# EAGLE library part TPS5430 (library dc-dc)
3-A, WIDE INPUT RANGE, STEP-DOWN SWIFT™ CONVERTER
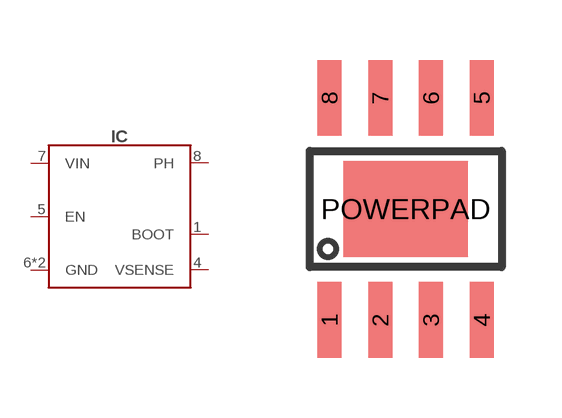
[diagram p16: symbol with the pads of SOIC8-POWERPAD; footprint SOIC8-POWERPAD]

Designator prefix IC

## TPS5430 (MANF: Texas Instruments; MANF#: TPS5430DDA)  [SOIC8-POWERPAD]
1  BOOT
4  VSENSE
5  EN
6  GND
7  VIN
8  PH
POWERPAD  GND

## Footprint SOIC8-POWERPAD (pad centres in mm)
https://datasheet.lcsc.com/szlcsc/1811060506_Texas-Instruments-LM5017MRX-NOPB_C34355.pdf
smd 0.6 x 1.9: 1 -1.905,-2.78; 2 -0.635,-2.78; 3 0.635,-2.78; 4 1.905,-2.78; 5 1.905,2.78; 6 0.635,2.78; 7 -0.635,2.78; 8 -1.905,2.78
smd 3.1 x 2.4: POWERPAD 0,0